# Altium integrated library Linear Technology Power Management Supercapacitor Chargers.IntLib: 96 symbols (part 5 of 8)
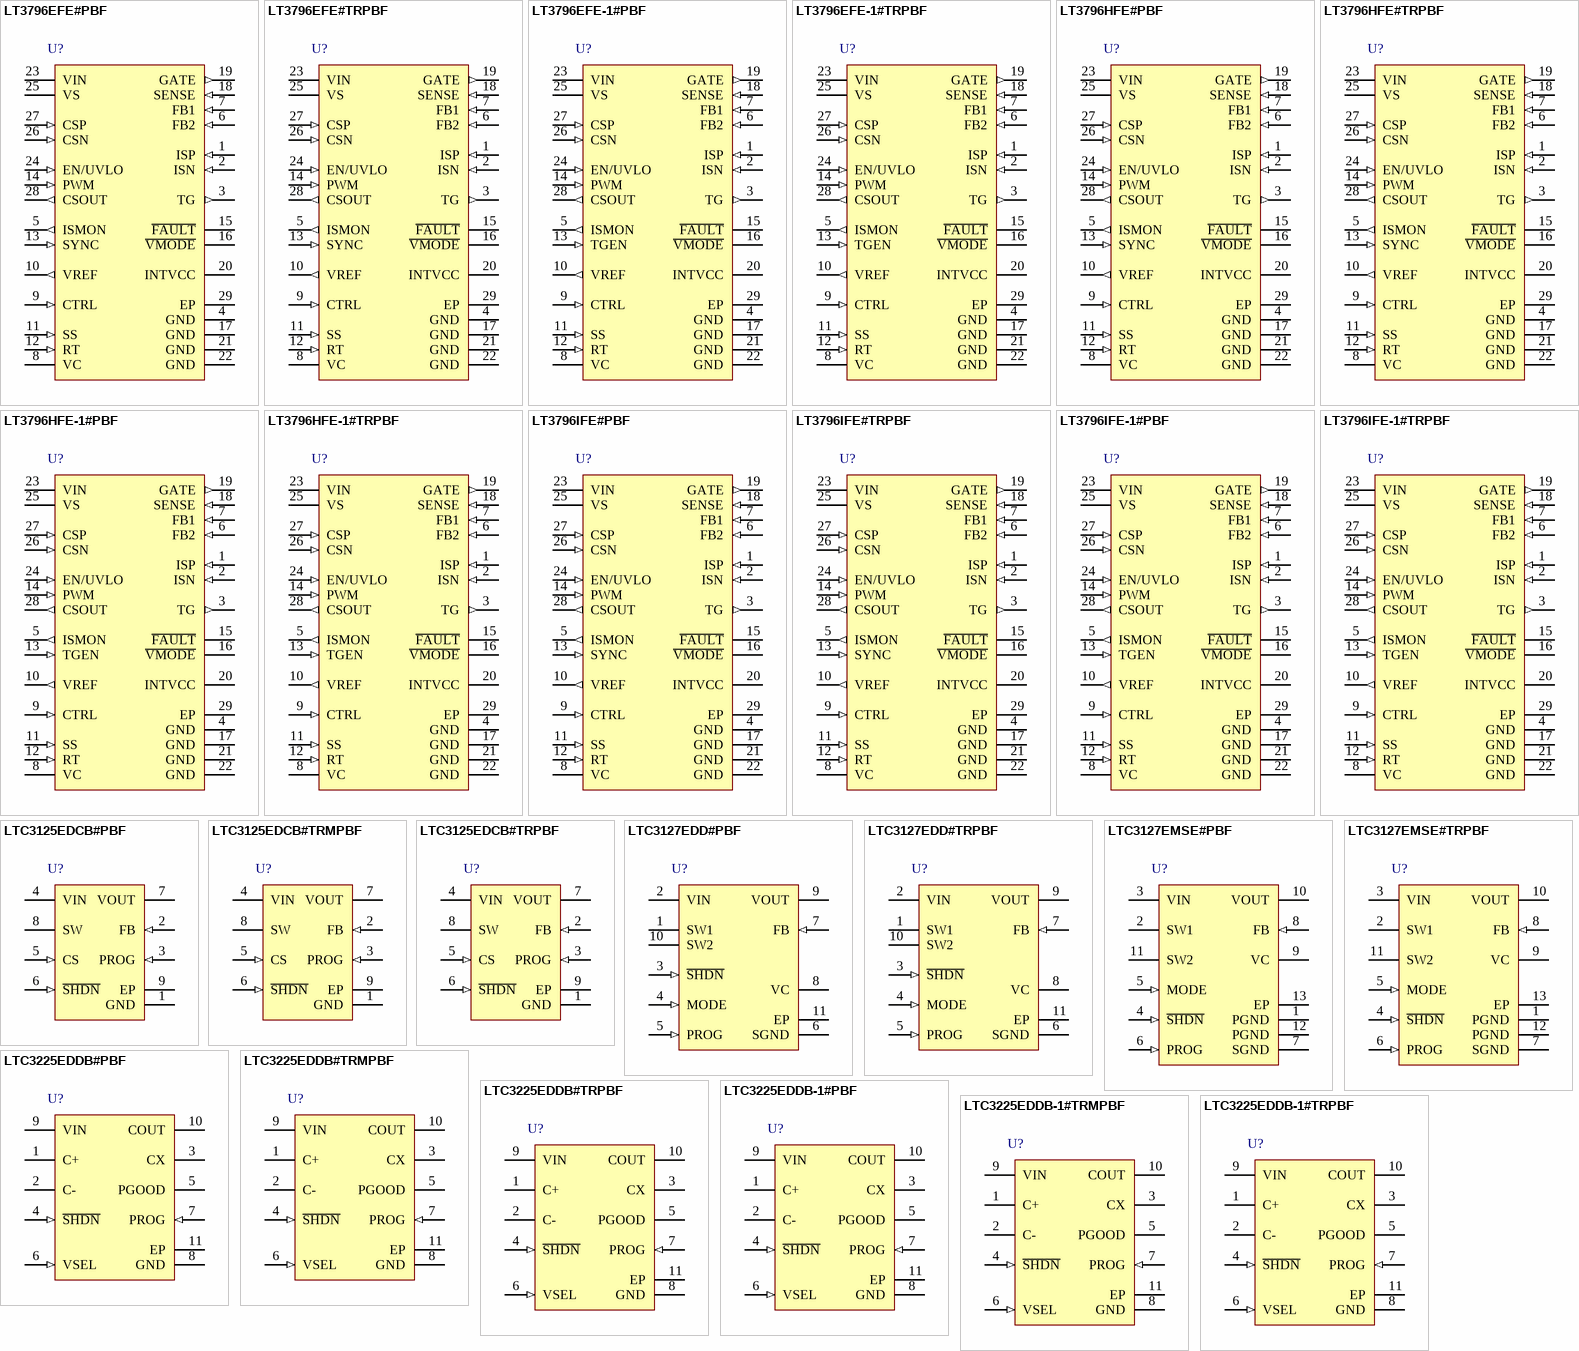
[diagram p7: symbols LT3796EFE#PBF to LTC3225EDDB-1#TRPBF]

## LTC3127EMSE#PBF
designator U?
1 A Buck-Boost DC/DC Converer with Porgrammable Input Current Limit, 1.8 to 5.5 V Vin, 5.25 V Vout MAX, 12-pin SOP (MSE-12-EDP), -40 to 85 degC, Pb-Free; Manufacturer: Linear Technology; PartNumber: LTC3127EMSE#PBF; Output Current(A): 1; PackageVersion: Rev. G, 05/2013; PackageReference: MSE-12-EDP; PackageDescription: 12-Pin Plastic MSOP, Exposed Die Pad, Body 4.039 x 3 mm, Pitch 0.65 mm; Supplier 1: Digi-Key; Supplier Part Number 1: LTC3127EMSE#PBF-ND; Supplier 2: Newark; Supplier Part Number 2: 67R4282; RoHS: TRUE; Topology: Buck-Boost; Mounting Technology: Surface Mount; ComponentLink1Description: Manufacturer URL; ComponentLink1URL: http://www.linear.com/; ComponentLink2Description: Datasheet; ComponentLink2URL: http://cds.linear.com/docs/en/datasheet/3127f.pdf; ComponentLink3Description: Package Specification; ComponentLink3URL: http://cds.linear.com/docs/en/packaging/05081666_G_MSE12.pdf
footprint LT-MSE-12-EDP_N (SOP, 12-Leads, Body 4.1x3.1mm, Pitch 0.65mm, Thermal Pad 2.95x1.76mm, IPC Medium Density)
footprint LT-MSE-12-EDP_L (SOP, 12-Leads, Body 4.1x3.1mm, Pitch 0.65mm, Thermal Pad 2.95x1.76mm, IPC High Density)
footprint LT-MSE-12-EDP_M (SOP, 12-Leads, Body 4.1x3.1mm, Pitch 0.65mm, Thermal Pad 2.95x1.76mm, IPC Low Density)
pins: 1 PGND (power) "Power Ground. The exposed pad must be soldered to the PCB ground plane.", 2 SW1 "Switch Pin Where Internal Switches A and B Are Connected. Connect inductor from SW1 to SW2. Minimize trace length to reduce EMI.", 3 VIN (power) "Input Supply Pin. Internal VCC for the IC. A 10uF or greater ceramic capacitor should be placed as close to VIN and PGND as possible.", 4 ~{SHDN} (in) "Logic-Controlled Shutdown Input.", 5 MODE (in) "Pulse Width Modulation/Burst Mode Selection Input.", 6 PROG (in) "Sets the Average Input Current Limit Threshold. Connect a resistor from PROG to ground. See below for component value selection.", 7 SGND (power) "Signal Ground for the IC. Terminate the PROG resistor, compensation components and the output voltage divider to SGND.", 8 FB (in) "Feedback Pin. Connect resistor divider tap here. The output voltage can be adjusted from 1.8V to 5.25V. The feedback reference voltage is 1.195V.", 9 VC "Error Amplifier Output. Place compensation components from this pin to SGND.", 10 VOUT (power) "Output of the Synchronous Rectifier. Connect the output filter capacitor from this pin to GND. A minimum value of 22uF is recommended. Output capacitors must be low ESR.", 11 SW2 "Switch Pin Where Internal Switches C and D Are Connected. Minimize trace length to reduce EMI.", 12 PGND (power) "Power Ground. The exposed pad must be soldered to the PCB ground plane.", 13 EP (power) "Power Ground. The exposed pad must be soldered to the PCB ground plane."

## LTC3127EMSE#TRPBF
designator U?
1 A Buck-Boost DC/DC Converer with Porgrammable Input Current Limit, 1.8 to 5.5 V Vin, 5.25 V Vout MAX, 12-pin SOP (MSE-12-EDP), -40 to 85 degC, Pb-Free, Tape and Reel; Manufacturer: Linear Technology; PartNumber: LTC3127EMSE#TRPBF; Output Current(A): 1; PackageVersion: Rev. G, 05/2013; PackageReference: MSE-12-EDP; PackageDescription: 12-Pin Plastic MSOP, Exposed Die Pad, Body 4.039 x 3 mm, Pitch 0.65 mm; Supplier 1: Digi-Key; Supplier Part Number 1: LTC3127EMSE#TRPBF-ND; Packing: Tape and Reel; RoHS: TRUE; Topology: Buck-Boost; Mounting Technology: Surface Mount; ComponentLink1Description: Manufacturer URL; ComponentLink1URL: http://www.linear.com/; ComponentLink2Description: Datasheet; ComponentLink2URL: http://cds.linear.com/docs/en/datasheet/3127f.pdf; ComponentLink3Description: Package Specification; ComponentLink3URL: http://cds.linear.com/docs/en/packaging/05081666_G_MSE12.pdf
footprint LT-MSE-12-EDP_N (SOP, 12-Leads, Body 4.1x3.1mm, Pitch 0.65mm, Thermal Pad 2.95x1.76mm, IPC Medium Density)
footprint LT-MSE-12-EDP_L (SOP, 12-Leads, Body 4.1x3.1mm, Pitch 0.65mm, Thermal Pad 2.95x1.76mm, IPC High Density)
footprint LT-MSE-12-EDP_M (SOP, 12-Leads, Body 4.1x3.1mm, Pitch 0.65mm, Thermal Pad 2.95x1.76mm, IPC Low Density)
pins: 1 PGND (power) "Power Ground. The exposed pad must be soldered to the PCB ground plane.", 2 SW1 "Switch Pin Where Internal Switches A and B Are Connected. Connect inductor from SW1 to SW2. Minimize trace length to reduce EMI.", 3 VIN (power) "Input Supply Pin. Internal VCC for the IC. A 10uF or greater ceramic capacitor should be placed as close to VIN and PGND as possible.", 4 ~{SHDN} (in) "Logic-Controlled Shutdown Input.", 5 MODE (in) "Pulse Width Modulation/Burst Mode Selection Input.", 6 PROG (in) "Sets the Average Input Current Limit Threshold. Connect a resistor from PROG to ground. See below for component value selection.", 7 SGND (power) "Signal Ground for the IC. Terminate the PROG resistor, compensation components and the output voltage divider to SGND.", 8 FB (in) "Feedback Pin. Connect resistor divider tap here. The output voltage can be adjusted from 1.8V to 5.25V. The feedback reference voltage is 1.195V.", 9 VC "Error Amplifier Output. Place compensation components from this pin to SGND.", 10 VOUT (power) "Output of the Synchronous Rectifier. Connect the output filter capacitor from this pin to GND. A minimum value of 22uF is recommended. Output capacitors must be low ESR.", 11 SW2 "Switch Pin Where Internal Switches C and D Are Connected. Minimize trace length to reduce EMI.", 12 PGND (power) "Power Ground. The exposed pad must be soldered to the PCB ground plane.", 13 EP (power) "Power Ground. The exposed pad must be soldered to the PCB ground plane."

## LTC3225EDDB#PBF
designator U?
150 mA Supercapacitor Charger, Selectable 2.4 V or 2.65 V Per Cell, 3 to 5.5 V Vin, 10-pin SON (DDB10), -40 to 85 degC, Pb-Free; Manufacturer: Linear Technology; PartNumber: LTC3225EDDB#PBF; Output Current(A): 0.15; Topology: Charge Pump; DatasheetVersion: Rev. B; PackageVersion: Rev. Ø, 06/2010; PackageReference: DDB10; PackageDescription: 10-Pin Plastic DFN, Body 3 x 2 mm, Pitch 0.5 mm; Supplier 1: Farnell; Supplier Part Number 1: 2308141; Supplier 2: Newark; Supplier Part Number 2: 78T3167; RoHS: TRUE; Mounting Technology: Surface Mount; Code_JEDEC: MO-229; ComponentLink1Description: Manufacturer URL; ComponentLink1URL: http://www.linear.com/; ComponentLink2Description: Datasheet; ComponentLink2URL: http://cds.linear.com/docs/en/datasheet/3225fb.pdf; ComponentLink3Description: Package Specification; ComponentLink3URL: http://cds.linear.com/docs/en/packaging/DFN_10_05-08-1722.pdf
footprint LT-DDB-10_V (SON, 10-Leads, Body 3x2mm, Pitch 0.5mm, Thermal Pad 2.39x0.64mm)
pins: 1 C+ "Flying Capacitor Positive Terminal. A 1uF X5R or X7R ceramic capacitor should be connected from C+ to C-.", 2 C- "Flying Capacitor Negative Terminal.", 3 CX "Midpoint of Two Series Supercapacitors. This pin voltage is monitored and forced to track COUT (CX = COUT/2) during charging to achieve voltage balancing of the top and bottom supercapacitors.", 4 ~{SHDN} (in) "Active Low Shutdown Input. A low on S\H\D\N\ puts the LTC3225/LTC3225-1 in low current shutdown mode. Do not float the S\H\D\N\ pin.", 5 PGOOD (hiz) "Open-Drain Output Status Indicator. Upon start-up, this open-drain pin remains low until the output voltage, VOUT, is within 6% (typical) of its fi nal value. Once VOUT is valid, PGOOD becomes Hi-Z. If VOUT falls 7.2% (See Datasheet)", 6 VSEL (in) "Output Voltage Selection Input. A logic low at VSEL sets the regulated COUT to 4.8V (LTC3225) or 4V (LTC3225-1); a logic high sets the regulated COUT to 5.3V (LTC3225) or 4.5V (LTC3225-1). Do not float the VSEL pin.", 7 PROG (in) "Charge Current Programming Pin. A resistor connected between this pin and GND sets the charge current. (See Applications Information section).", 8 GND (power) "Charge Pump Ground. These pins must be soldered directly to PCB ground. The exposed pad must be soldered to a low impedance PCB ground for rated thermal performance.", 9 VIN (power) "Power Supply for the LTC3225/LTC3225-1. VIN should be bypassed to GND with a low ESR ceramic capacitor of more than 2.2uF.", 10 COUT (power) "Charge Pump Output Pin. Connect COUT to the top plate of the top supercapacitor. COUT provides charge current to the supercapacitors and regulates the final voltage to 4.8V/5.3V (LTC3225) or 4V/4.5V (LTC3225-1).", 11 EP (power) "Charge Pump Ground. These pins must be soldered directly to PCB ground. The exposed pad must be soldered to a low impedance PCB ground for rated thermal performance."

## LTC3225EDDB#TRMPBF
designator U?
150 mA Supercapacitor Charger, Selectable 2.4 V or 2.65 V Per Cell, 3 to 5.5 V Vin, 10-pin SON (DDB10), -40 to 85 degC, Pb-Free, Mini Tape and Reel; Manufacturer: Linear Technology; PartNumber: LTC3225EDDB#TRMPBF; Output Current(A): 0.15; Topology: Charge Pump; DatasheetVersion: Rev. B; PackageVersion: Rev. Ø, 06/2010; PackageReference: DDB10; PackageDescription: 10-Pin Plastic DFN, Body 3 x 2 mm, Pitch 0.5 mm; Supplier 1: Digi-Key; Supplier Part Number 1: LTC3225EDDB#TRMPBFTR-ND; Supplier 2: Digi-Key; Supplier Part Number 2: LTC3225EDDB#TRMPBFCT-ND; Supplier 3: Digi-Key; Supplier Part Number 3: LTC3225EDDB#TRMPBFDKR-ND; Supplier 4: Farnell; Supplier Part Number 4: 1715231RL; Supplier 5: Farnell; Supplier Part Number 5: 1715231; Supplier 6: Newark; Supplier Part Number 6: 15N3516; Packing: Mini Tape and Reel; RoHS: TRUE; Mounting Technology: Surface Mount; Code_JEDEC: MO-229; ComponentLink1Description: Manufacturer URL; ComponentLink1URL: http://www.linear.com/; ComponentLink2Description: Datasheet; ComponentLink2URL: http://cds.linear.com/docs/en/datasheet/3225fb.pdf; ComponentLink3Description: Package Specification; ComponentLink3URL: http://cds.linear.com/docs/en/packaging/DFN_10_05-08-1722.pdf
footprint LT-DDB-10_V (SON, 10-Leads, Body 3x2mm, Pitch 0.5mm, Thermal Pad 2.39x0.64mm)
pins: 1 C+ "Flying Capacitor Positive Terminal. A 1uF X5R or X7R ceramic capacitor should be connected from C+ to C-.", 2 C- "Flying Capacitor Negative Terminal.", 3 CX "Midpoint of Two Series Supercapacitors. This pin voltage is monitored and forced to track COUT (CX = COUT/2) during charging to achieve voltage balancing of the top and bottom supercapacitors.", 4 ~{SHDN} (in) "Active Low Shutdown Input. A low on S\H\D\N\ puts the LTC3225/LTC3225-1 in low current shutdown mode. Do not float the S\H\D\N\ pin.", 5 PGOOD (hiz) "Open-Drain Output Status Indicator. Upon start-up, this open-drain pin remains low until the output voltage, VOUT, is within 6% (typical) of its fi nal value. Once VOUT is valid, PGOOD becomes Hi-Z. If VOUT falls 7.2% (See Datasheet)", 6 VSEL (in) "Output Voltage Selection Input. A logic low at VSEL sets the regulated COUT to 4.8V (LTC3225) or 4V (LTC3225-1); a logic high sets the regulated COUT to 5.3V (LTC3225) or 4.5V (LTC3225-1). Do not float the VSEL pin.", 7 PROG (in) "Charge Current Programming Pin. A resistor connected between this pin and GND sets the charge current. (See Applications Information section).", 8 GND (power) "Charge Pump Ground. These pins must be soldered directly to PCB ground. The exposed pad must be soldered to a low impedance PCB ground for rated thermal performance.", 9 VIN (power) "Power Supply for the LTC3225/LTC3225-1. VIN should be bypassed to GND with a low ESR ceramic capacitor of more than 2.2uF.", 10 COUT (power) "Charge Pump Output Pin. Connect COUT to the top plate of the top supercapacitor. COUT provides charge current to the supercapacitors and regulates the final voltage to 4.8V/5.3V (LTC3225) or 4V/4.5V (LTC3225-1).", 11 EP (power) "Charge Pump Ground. These pins must be soldered directly to PCB ground. The exposed pad must be soldered to a low impedance PCB ground for rated thermal performance."

## LTC3225EDDB#TRPBF
designator U?
150 mA Supercapacitor Charger, Selectable 2.4 V or 2.65 V Per Cell, 3 to 5.5 V Vin, 10-pin SON (DDB10), -40 to 85 degC, Pb-Free, Tape and Reel; Manufacturer: Linear Technology; PartNumber: LTC3225EDDB#TRPBF; Output Current(A): 0.15; Topology: Charge Pump; DatasheetVersion: Rev. B; PackageVersion: Rev. Ø, 06/2010; PackageReference: DDB10; PackageDescription: 10-Pin Plastic DFN, Body 3 x 2 mm, Pitch 0.5 mm; Supplier 1: Digi-Key; Supplier Part Number 1: LTC3225EDDB#TRPBF-ND; Packing: Tape and Reel; RoHS: TRUE; Mounting Technology: Surface Mount; Code_JEDEC: MO-229; ComponentLink1Description: Manufacturer URL; ComponentLink1URL: http://www.linear.com/; ComponentLink2Description: Datasheet; ComponentLink2URL: http://cds.linear.com/docs/en/datasheet/3225fb.pdf; ComponentLink3Description: Package Specification; ComponentLink3URL: http://cds.linear.com/docs/en/packaging/DFN_10_05-08-1722.pdf
footprint LT-DDB-10_V (SON, 10-Leads, Body 3x2mm, Pitch 0.5mm, Thermal Pad 2.39x0.64mm)
pins: 1 C+ "Flying Capacitor Positive Terminal. A 1uF X5R or X7R ceramic capacitor should be connected from C+ to C-.", 2 C- "Flying Capacitor Negative Terminal.", 3 CX "Midpoint of Two Series Supercapacitors. This pin voltage is monitored and forced to track COUT (CX = COUT/2) during charging to achieve voltage balancing of the top and bottom supercapacitors.", 4 ~{SHDN} (in) "Active Low Shutdown Input. A low on S\H\D\N\ puts the LTC3225/LTC3225-1 in low current shutdown mode. Do not float the S\H\D\N\ pin.", 5 PGOOD (hiz) "Open-Drain Output Status Indicator. Upon start-up, this open-drain pin remains low until the output voltage, VOUT, is within 6% (typical) of its fi nal value. Once VOUT is valid, PGOOD becomes Hi-Z. If VOUT falls 7.2% (See Datasheet)", 6 VSEL (in) "Output Voltage Selection Input. A logic low at VSEL sets the regulated COUT to 4.8V (LTC3225) or 4V (LTC3225-1); a logic high sets the regulated COUT to 5.3V (LTC3225) or 4.5V (LTC3225-1). Do not float the VSEL pin.", 7 PROG (in) "Charge Current Programming Pin. A resistor connected between this pin and GND sets the charge current. (See Applications Information section).", 8 GND (power) "Charge Pump Ground. These pins must be soldered directly to PCB ground. The exposed pad must be soldered to a low impedance PCB ground for rated thermal performance.", 9 VIN (power) "Power Supply for the LTC3225/LTC3225-1. VIN should be bypassed to GND with a low ESR ceramic capacitor of more than 2.2uF.", 10 COUT (power) "Charge Pump Output Pin. Connect COUT to the top plate of the top supercapacitor. COUT provides charge current to the supercapacitors and regulates the final voltage to 4.8V/5.3V (LTC3225) or 4V/4.5V (LTC3225-1).", 11 EP (power) "Charge Pump Ground. These pins must be soldered directly to PCB ground. The exposed pad must be soldered to a low impedance PCB ground for rated thermal performance."

## LTC3225EDDB-1#PBF
designator U?
150 mA Supercapacitor Charger, Selectable 2 V or 2.25 V Per Cell, 3 to 5.5 V Vin, 10-pin SON (DDB10), -40 to 85 degC, Pb-Free; Manufacturer: Linear Technology; PartNumber: LTC3225EDDB-1#PBF; Output Current(A): 0.15; Topology: Charge Pump; DatasheetVersion: Rev. B; PackageVersion: Rev. Ø, 06/2010; PackageReference: DDB10; PackageDescription: 10-Pin Plastic DFN, Body 3 x 2 mm, Pitch 0.5 mm; RoHS: TRUE; Mounting Technology: Surface Mount; Code_JEDEC: MO-229; ComponentLink1Description: Manufacturer URL; ComponentLink1URL: http://www.linear.com/; ComponentLink2Description: Datasheet; ComponentLink2URL: http://cds.linear.com/docs/en/datasheet/3225fb.pdf; ComponentLink3Description: Package Specification; ComponentLink3URL: http://cds.linear.com/docs/en/packaging/DFN_10_05-08-1722.pdf
footprint LT-DDB-10_V (SON, 10-Leads, Body 3x2mm, Pitch 0.5mm, Thermal Pad 2.39x0.64mm)
pins: 1 C+ "Flying Capacitor Positive Terminal. A 1uF X5R or X7R ceramic capacitor should be connected from C+ to C-.", 2 C- "Flying Capacitor Negative Terminal.", 3 CX "Midpoint of Two Series Supercapacitors. This pin voltage is monitored and forced to track COUT (CX = COUT/2) during charging to achieve voltage balancing of the top and bottom supercapacitors.", 4 ~{SHDN} (in) "Active Low Shutdown Input. A low on S\H\D\N\ puts the LTC3225/LTC3225-1 in low current shutdown mode. Do not float the S\H\D\N\ pin.", 5 PGOOD (hiz) "Open-Drain Output Status Indicator. Upon start-up, this open-drain pin remains low until the output voltage, VOUT, is within 6% (typical) of its fi nal value. Once VOUT is valid, PGOOD becomes Hi-Z. If VOUT falls 7.2% (See Datasheet)", 6 VSEL (in) "Output Voltage Selection Input. A logic low at VSEL sets the regulated COUT to 4.8V (LTC3225) or 4V (LTC3225-1); a logic high sets the regulated COUT to 5.3V (LTC3225) or 4.5V (LTC3225-1). Do not float the VSEL pin.", 7 PROG (in) "Charge Current Programming Pin. A resistor connected between this pin and GND sets the charge current. (See Applications Information section).", 8 GND (power) "Charge Pump Ground. These pins must be soldered directly to PCB ground. The exposed pad must be soldered to a low impedance PCB ground for rated thermal performance.", 9 VIN (power) "Power Supply for the LTC3225/LTC3225-1. VIN should be bypassed to GND with a low ESR ceramic capacitor of more than 2.2uF.", 10 COUT (power) "Charge Pump Output Pin. Connect COUT to the top plate of the top supercapacitor. COUT provides charge current to the supercapacitors and regulates the final voltage to 4.8V/5.3V (LTC3225) or 4V/4.5V (LTC3225-1).", 11 EP (power) "Charge Pump Ground. These pins must be soldered directly to PCB ground. The exposed pad must be soldered to a low impedance PCB ground for rated thermal performance."

## LTC3225EDDB-1#TRMPBF
designator U?
150 mA Supercapacitor Charger, Selectable 2 V or 2.25 V Per Cell, 3 to 5.5 V Vin, 10-pin SON (DDB10), -40 to 85 degC, Pb-Free, Mini Tape and Reel; Manufacturer: Linear Technology; PartNumber: LTC3225EDDB-1#TRMPBF; Output Current(A): 0.15; Topology: Charge Pump; DatasheetVersion: Rev. B; PackageVersion: Rev. Ø, 06/2010; PackageReference: DDB10; PackageDescription: 10-Pin Plastic DFN, Body 3 x 2 mm, Pitch 0.5 mm; Supplier 1: Digi-Key; Supplier Part Number 1: LTC3225EDDB-1#TRMPBFTR-ND; Supplier 2: Digi-Key; Supplier Part Number 2: LTC3225EDDB-1#TRMPBFCT-ND; Supplier 3: Digi-Key; Supplier Part Number 3: LTC3225EDDB-1#TRMPBFDKR-ND; Supplier 4: Newark; Supplier Part Number 4: 24R6604; Packing: Mini Tape and Reel; RoHS: TRUE; Mounting Technology: Surface Mount; Code_JEDEC: MO-229; ComponentLink1Description: Manufacturer URL; ComponentLink1URL: http://www.linear.com/; ComponentLink2Description: Datasheet; ComponentLink2URL: http://cds.linear.com/docs/en/datasheet/3225fb.pdf; ComponentLink3Description: Package Specification; ComponentLink3URL: http://cds.linear.com/docs/en/packaging/DFN_10_05-08-1722.pdf
footprint LT-DDB-10_V (SON, 10-Leads, Body 3x2mm, Pitch 0.5mm, Thermal Pad 2.39x0.64mm)
pins: 1 C+ "Flying Capacitor Positive Terminal. A 1uF X5R or X7R ceramic capacitor should be connected from C+ to C-.", 2 C- "Flying Capacitor Negative Terminal.", 3 CX "Midpoint of Two Series Supercapacitors. This pin voltage is monitored and forced to track COUT (CX = COUT/2) during charging to achieve voltage balancing of the top and bottom supercapacitors.", 4 ~{SHDN} (in) "Active Low Shutdown Input. A low on S\H\D\N\ puts the LTC3225/LTC3225-1 in low current shutdown mode. Do not float the S\H\D\N\ pin.", 5 PGOOD (hiz) "Open-Drain Output Status Indicator. Upon start-up, this open-drain pin remains low until the output voltage, VOUT, is within 6% (typical) of its fi nal value. Once VOUT is valid, PGOOD becomes Hi-Z. If VOUT falls 7.2% (See Datasheet)", 6 VSEL (in) "Output Voltage Selection Input. A logic low at VSEL sets the regulated COUT to 4.8V (LTC3225) or 4V (LTC3225-1); a logic high sets the regulated COUT to 5.3V (LTC3225) or 4.5V (LTC3225-1). Do not float the VSEL pin.", 7 PROG (in) "Charge Current Programming Pin. A resistor connected between this pin and GND sets the charge current. (See Applications Information section).", 8 GND (power) "Charge Pump Ground. These pins must be soldered directly to PCB ground. The exposed pad must be soldered to a low impedance PCB ground for rated thermal performance.", 9 VIN (power) "Power Supply for the LTC3225/LTC3225-1. VIN should be bypassed to GND with a low ESR ceramic capacitor of more than 2.2uF.", 10 COUT (power) "Charge Pump Output Pin. Connect COUT to the top plate of the top supercapacitor. COUT provides charge current to the supercapacitors and regulates the final voltage to 4.8V/5.3V (LTC3225) or 4V/4.5V (LTC3225-1).", 11 EP (power) "Charge Pump Ground. These pins must be soldered directly to PCB ground. The exposed pad must be soldered to a low impedance PCB ground for rated thermal performance."

## LTC3225EDDB-1#TRPBF
designator U?
150 mA Supercapacitor Charger, Selectable 2 V or 2.25 V Per Cell, 3 to 5.5 V Vin, 10-pin SON (DDB10), -40 to 85 degC, Pb-Free, Tape and Reel; Manufacturer: Linear Technology; PartNumber: LTC3225EDDB-1#TRPBF; Output Current(A): 0.15; Topology: Charge Pump; DatasheetVersion: Rev. B; PackageVersion: Rev. Ø, 06/2010; PackageReference: DDB10; PackageDescription: 10-Pin Plastic DFN, Body 3 x 2 mm, Pitch 0.5 mm; Supplier 1: Digi-Key; Supplier Part Number 1: LTC3225EDDB-1#TRPBF-ND; Packing: Tape and Reel; RoHS: TRUE; Mounting Technology: Surface Mount; Code_JEDEC: MO-229; ComponentLink1Description: Manufacturer URL; ComponentLink1URL: http://www.linear.com/; ComponentLink2Description: Datasheet; ComponentLink2URL: http://cds.linear.com/docs/en/datasheet/3225fb.pdf; ComponentLink3Description: Package Specification; ComponentLink3URL: http://cds.linear.com/docs/en/packaging/DFN_10_05-08-1722.pdf
footprint LT-DDB-10_V (SON, 10-Leads, Body 3x2mm, Pitch 0.5mm, Thermal Pad 2.39x0.64mm)
pins: 1 C+ "Flying Capacitor Positive Terminal. A 1uF X5R or X7R ceramic capacitor should be connected from C+ to C-.", 2 C- "Flying Capacitor Negative Terminal.", 3 CX "Midpoint of Two Series Supercapacitors. This pin voltage is monitored and forced to track COUT (CX = COUT/2) during charging to achieve voltage balancing of the top and bottom supercapacitors.", 4 ~{SHDN} (in) "Active Low Shutdown Input. A low on S\H\D\N\ puts the LTC3225/LTC3225-1 in low current shutdown mode. Do not float the S\H\D\N\ pin.", 5 PGOOD (hiz) "Open-Drain Output Status Indicator. Upon start-up, this open-drain pin remains low until the output voltage, VOUT, is within 6% (typical) of its fi nal value. Once VOUT is valid, PGOOD becomes Hi-Z. If VOUT falls 7.2% (See Datasheet)", 6 VSEL (in) "Output Voltage Selection Input. A logic low at VSEL sets the regulated COUT to 4.8V (LTC3225) or 4V (LTC3225-1); a logic high sets the regulated COUT to 5.3V (LTC3225) or 4.5V (LTC3225-1). Do not float the VSEL pin.", 7 PROG (in) "Charge Current Programming Pin. A resistor connected between this pin and GND sets the charge current. (See Applications Information section).", 8 GND (power) "Charge Pump Ground. These pins must be soldered directly to PCB ground. The exposed pad must be soldered to a low impedance PCB ground for rated thermal performance.", 9 VIN (power) "Power Supply for the LTC3225/LTC3225-1. VIN should be bypassed to GND with a low ESR ceramic capacitor of more than 2.2uF.", 10 COUT (power) "Charge Pump Output Pin. Connect COUT to the top plate of the top supercapacitor. COUT provides charge current to the supercapacitors and regulates the final voltage to 4.8V/5.3V (LTC3225) or 4V/4.5V (LTC3225-1).", 11 EP (power) "Charge Pump Ground. These pins must be soldered directly to PCB ground. The exposed pad must be soldered to a low impedance PCB ground for rated thermal performance."

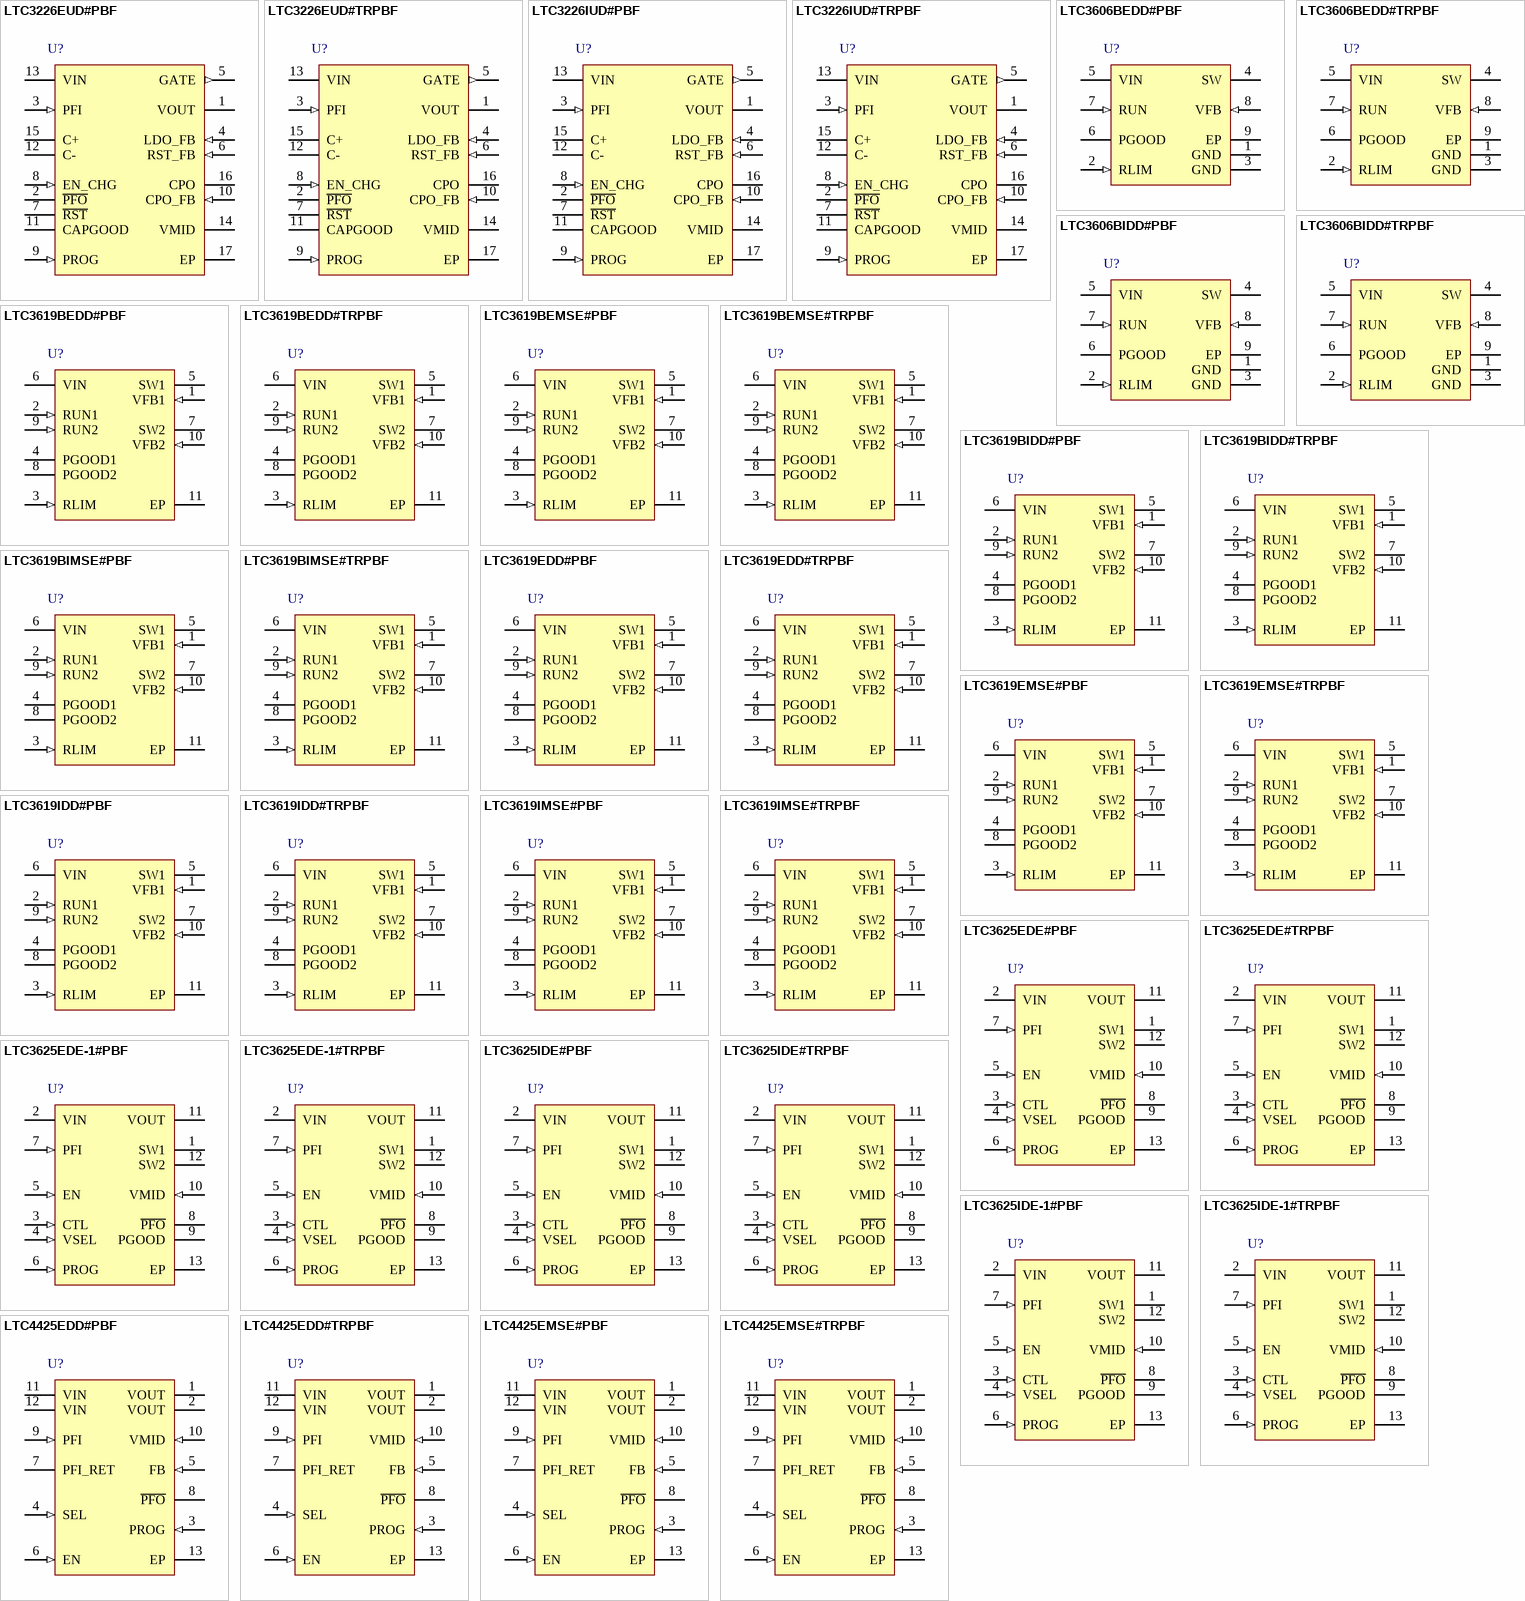
[diagram p2: symbols LTC3226EUD#PBF to LTC4425EMSE#TRPBF]

## LTC3226EUD#PBF
designator U?
2-Cell Supercapacitor Charger with Backup PowerPath Controller, 2.5 to 5.5 V Vin, 5.3 V Vout MAX, 16-pin QFN (UD-16), -40 to 125 degC, Pb-Free; Manufacturer: Linear Technology; PartNumber: LTC3226EUD#PBF; Output Current(A): 0.315; Topology: Charge Pump; DatasheetVersion: Rev. A; PackageVersion: Jun-10; PackageReference: UD-16; PackageDescription: 16-Pin Plastic QFN, Body 3 x 3 mm, Pitch 0.5 mm; Supplier 1: Digi-Key; Supplier Part Number 1: LTC3226EUD#PBF-ND; Supplier 2: Farnell; Supplier Part Number 2: 2033980; Supplier 3: Newark; Supplier Part Number 3: 59T5591; RoHS: TRUE; Mounting Technology: Surface Mount; Code_JEDEC: MO-220; ComponentLink1Description: Manufacturer URL; ComponentLink1URL: http://www.linear.com/; ComponentLink2Description: Datasheet; ComponentLink2URL: http://cds.linear.com/docs/en/datasheet/3226fa.pdf; ComponentLink3Description: Package Specification; ComponentLink3URL: http://cds.linear.com/docs/en/packaging/QFN_16_05-08-1691.pdf
footprint LT-UD-16_N (QFN, 16-Leads, Body 3x3mm, Pitch 0.5mm, Thermal Pad 1.45x1.45mm, IPC Medium Density)
footprint LT-UD-16_L (QFN, 16-Leads, Body 3x3mm, Pitch 0.5mm, Thermal Pad 1.45x1.45mm, IPC High Density)
footprint LT-UD-16_M (QFN, 16-Leads, Body 3x3mm, Pitch 0.5mm, Thermal Pad 1.45x1.45mm, IPC Low Density)
pins: 1 VOUT (power) "Voltage Output. This pin is used to provide power to an external load from either the primary input supply (VIN) or the supercapacitor (CPO) if the primary input supply is not available. VOUT should be bypassed with a low (See Datasheet)", 2 ~{PFO} (hiz) "Open-Drain Power-Fail Status Output. This pin is pulled to ground by an internal N-channel MOSFET when the PFI input is below 1.2V. Once the PFI input recovers, this pin becomes high impedance.", 3 PFI (in) "Power-Fail Input. High impedance input to an accurate comparator with a 1.2V falling threshold and 20mV hysteresis. This pin controls the state of the P\F\O\ output pin and the operating mode of the LTC3226.", 4 LDO_FB (in) "Internal LDO Feedback Pin. The voltage on this pin is compared to the internal reference voltage (0.8V) by the error amplifier to keep the output in regulation. An external resistor divider is required between VOUT, LDO_FB (See Datasheet)", 5 GATE (out) "External FET Gate Pin. This pin is driven by an internal ideal diode controller to regulate VOUT to 15mV below VIN.", 6 RST_FB (in) "Reset Comparator Input. High impedance input to an accurate comparator with a 0.74V falling threshold and 20mV hysteresis. This pin controls the state of the R\S\T\ output pin. An external resistor divider is required (See Datasheet)", 7 ~{RST} (hiz) "Open-Drain Status Output of the RESET Comparator. This pin is pulled to ground by an internal N-channel MOSFET whenever the RST_FB pin voltage falls below 0.74V. Once the RST_FB pin voltage recovers, the pin becomes high (See Datasheet)", 8 EN_CHG (in) "Enable Pin for the Charge Pump Supercapacitor Charger with an Internal Pull-Up. Tie this pin to a voltage below 0.4V to disable the internal charge pump.", 9 PROG (in) "Charger Input Current Limit Programming Pin. A resistor connected between this pin and GND sets the input current limit for the charger. See the Applications Information section.", 10 CPO_FB (in) "Feedback Pin for the Charge Pump. The voltage on this pin is compared to the internal reference voltage (1.2V) to keep the charge pump output CPO in regulation. An external resistor divider is required between CPO, CPO_FB (See Datasheet)", 11 CAPGOOD (hiz) "Open-Drain Status Output of the CPO Voltage. This pin is pulled to ground by an internal N-channel MOSFET until CPO_FB pin reaches 1.11V. Once the CPO_FB pin exceeds 1.11V, this pin becomes high impedance indicating that the (See Datasheet)", 12 C- "Internal Charge Pump Flying Capacitor Negative Terminal.", 13 VIN (power) "Primary Input Supply. This pin supplies power to the VOUT pin through an external P-channel MOSFET and also to the supercapacitors attached to the CPO and VMID pins. VIN should be bypassed to GND with a low ESR ceramic (See Datasheet)", 14 VMID "Midpoint of Two Series Supercapacitors.", 15 C+ "Internal Charge Pump Flying Capacitor Positive Terminal. A 1uF to 10uF X5R or X7R ceramic capacitor should be connected from C+ to C-.", 16 CPO (power) "Backup Supply Pin. Connect CPO to the top plate of the top supercapacitor. This pin receives power from VIN through an internal charge pump doubler and supplies power to VOUT through an internal LDO when the primary input (See Datasheet)", 17 EP (power) "Ground. The exposed pad should be connected to a continuous ground plane on the second layer of the printed circuit board by several vias directly under the part to achieve optimal thermal performance."

## LTC3226EUD#TRPBF
designator U?
2-Cell Supercapacitor Charger with Backup PowerPath Controller, 2.5 to 5.5 V Vin, 5.3 V Vout MAX, 16-pin QFN (UD-16), -40 to 125 degC, Pb-Free, Tape and Reel; Manufacturer: Linear Technology; PartNumber: LTC3226EUD#TRPBF; Output Current(A): 0.315; Topology: Charge Pump; DatasheetVersion: Rev. A; PackageVersion: Jun-10; PackageReference: UD-16; PackageDescription: 16-Pin Plastic QFN, Body 3 x 3 mm, Pitch 0.5 mm; Supplier 1: Digi-Key; Supplier Part Number 1: LTC3226EUD#TRPBF-ND; Packing: Tape and Reel; RoHS: TRUE; Mounting Technology: Surface Mount; Code_JEDEC: MO-220; ComponentLink1Description: Manufacturer URL; ComponentLink1URL: http://www.linear.com/; ComponentLink2Description: Datasheet; ComponentLink2URL: http://cds.linear.com/docs/en/datasheet/3226fa.pdf; ComponentLink3Description: Package Specification; ComponentLink3URL: http://cds.linear.com/docs/en/packaging/QFN_16_05-08-1691.pdf
footprint LT-UD-16_N (QFN, 16-Leads, Body 3x3mm, Pitch 0.5mm, Thermal Pad 1.45x1.45mm, IPC Medium Density)
footprint LT-UD-16_L (QFN, 16-Leads, Body 3x3mm, Pitch 0.5mm, Thermal Pad 1.45x1.45mm, IPC High Density)
footprint LT-UD-16_M (QFN, 16-Leads, Body 3x3mm, Pitch 0.5mm, Thermal Pad 1.45x1.45mm, IPC Low Density)
pins: 1 VOUT (power) "Voltage Output. This pin is used to provide power to an external load from either the primary input supply (VIN) or the supercapacitor (CPO) if the primary input supply is not available. VOUT should be bypassed with a low (See Datasheet)", 2 ~{PFO} (hiz) "Open-Drain Power-Fail Status Output. This pin is pulled to ground by an internal N-channel MOSFET when the PFI input is below 1.2V. Once the PFI input recovers, this pin becomes high impedance.", 3 PFI (in) "Power-Fail Input. High impedance input to an accurate comparator with a 1.2V falling threshold and 20mV hysteresis. This pin controls the state of the P\F\O\ output pin and the operating mode of the LTC3226.", 4 LDO_FB (in) "Internal LDO Feedback Pin. The voltage on this pin is compared to the internal reference voltage (0.8V) by the error amplifier to keep the output in regulation. An external resistor divider is required between VOUT, LDO_FB (See Datasheet)", 5 GATE (out) "External FET Gate Pin. This pin is driven by an internal ideal diode controller to regulate VOUT to 15mV below VIN.", 6 RST_FB (in) "Reset Comparator Input. High impedance input to an accurate comparator with a 0.74V falling threshold and 20mV hysteresis. This pin controls the state of the R\S\T\ output pin. An external resistor divider is required (See Datasheet)", 7 ~{RST} (hiz) "Open-Drain Status Output of the RESET Comparator. This pin is pulled to ground by an internal N-channel MOSFET whenever the RST_FB pin voltage falls below 0.74V. Once the RST_FB pin voltage recovers, the pin becomes high (See Datasheet)", 8 EN_CHG (in) "Enable Pin for the Charge Pump Supercapacitor Charger with an Internal Pull-Up. Tie this pin to a voltage below 0.4V to disable the internal charge pump.", 9 PROG (in) "Charger Input Current Limit Programming Pin. A resistor connected between this pin and GND sets the input current limit for the charger. See the Applications Information section.", 10 CPO_FB (in) "Feedback Pin for the Charge Pump. The voltage on this pin is compared to the internal reference voltage (1.2V) to keep the charge pump output CPO in regulation. An external resistor divider is required between CPO, CPO_FB (See Datasheet)", 11 CAPGOOD (hiz) "Open-Drain Status Output of the CPO Voltage. This pin is pulled to ground by an internal N-channel MOSFET until CPO_FB pin reaches 1.11V. Once the CPO_FB pin exceeds 1.11V, this pin becomes high impedance indicating that the (See Datasheet)", 12 C- "Internal Charge Pump Flying Capacitor Negative Terminal.", 13 VIN (power) "Primary Input Supply. This pin supplies power to the VOUT pin through an external P-channel MOSFET and also to the supercapacitors attached to the CPO and VMID pins. VIN should be bypassed to GND with a low ESR ceramic (See Datasheet)", 14 VMID "Midpoint of Two Series Supercapacitors.", 15 C+ "Internal Charge Pump Flying Capacitor Positive Terminal. A 1uF to 10uF X5R or X7R ceramic capacitor should be connected from C+ to C-.", 16 CPO (power) "Backup Supply Pin. Connect CPO to the top plate of the top supercapacitor. This pin receives power from VIN through an internal charge pump doubler and supplies power to VOUT through an internal LDO when the primary input (See Datasheet)", 17 EP (power) "Ground. The exposed pad should be connected to a continuous ground plane on the second layer of the printed circuit board by several vias directly under the part to achieve optimal thermal performance."

## LTC3226IUD#PBF
designator U?
2-Cell Supercapacitor Charger with Backup PowerPath Controller, 2.5 to 5.5 V Vin, 5.3 V Vout MAX, 16-pin QFN (UD-16), -40 to 125 degC, Pb-Free; Manufacturer: Linear Technology; PartNumber: LTC3226IUD#PBF; Output Current(A): 0.315; Topology: Charge Pump; DatasheetVersion: Rev. A; PackageVersion: Jun-10; PackageReference: UD-16; PackageDescription: 16-Pin Plastic QFN, Body 3 x 3 mm, Pitch 0.5 mm; Supplier 1: Digi-Key; Supplier Part Number 1: LTC3226IUD#PBF-ND; Supplier 2: Newark; Supplier Part Number 2: 59T5593; RoHS: TRUE; Mounting Technology: Surface Mount; Code_JEDEC: MO-220; ComponentLink1Description: Manufacturer URL; ComponentLink1URL: http://www.linear.com/; ComponentLink2Description: Datasheet; ComponentLink2URL: http://cds.linear.com/docs/en/datasheet/3226fa.pdf; ComponentLink3Description: Package Specification; ComponentLink3URL: http://cds.linear.com/docs/en/packaging/QFN_16_05-08-1691.pdf
footprint LT-UD-16_N (QFN, 16-Leads, Body 3x3mm, Pitch 0.5mm, Thermal Pad 1.45x1.45mm, IPC Medium Density)
footprint LT-UD-16_L (QFN, 16-Leads, Body 3x3mm, Pitch 0.5mm, Thermal Pad 1.45x1.45mm, IPC High Density)
footprint LT-UD-16_M (QFN, 16-Leads, Body 3x3mm, Pitch 0.5mm, Thermal Pad 1.45x1.45mm, IPC Low Density)
pins: 1 VOUT (power) "Voltage Output. This pin is used to provide power to an external load from either the primary input supply (VIN) or the supercapacitor (CPO) if the primary input supply is not available. VOUT should be bypassed with a low (See Datasheet)", 2 ~{PFO} (hiz) "Open-Drain Power-Fail Status Output. This pin is pulled to ground by an internal N-channel MOSFET when the PFI input is below 1.2V. Once the PFI input recovers, this pin becomes high impedance.", 3 PFI (in) "Power-Fail Input. High impedance input to an accurate comparator with a 1.2V falling threshold and 20mV hysteresis. This pin controls the state of the P\F\O\ output pin and the operating mode of the LTC3226.", 4 LDO_FB (in) "Internal LDO Feedback Pin. The voltage on this pin is compared to the internal reference voltage (0.8V) by the error amplifier to keep the output in regulation. An external resistor divider is required between VOUT, LDO_FB (See Datasheet)", 5 GATE (out) "External FET Gate Pin. This pin is driven by an internal ideal diode controller to regulate VOUT to 15mV below VIN.", 6 RST_FB (in) "Reset Comparator Input. High impedance input to an accurate comparator with a 0.74V falling threshold and 20mV hysteresis. This pin controls the state of the R\S\T\ output pin. An external resistor divider is required (See Datasheet)", 7 ~{RST} (hiz) "Open-Drain Status Output of the RESET Comparator. This pin is pulled to ground by an internal N-channel MOSFET whenever the RST_FB pin voltage falls below 0.74V. Once the RST_FB pin voltage recovers, the pin becomes high (See Datasheet)", 8 EN_CHG (in) "Enable Pin for the Charge Pump Supercapacitor Charger with an Internal Pull-Up. Tie this pin to a voltage below 0.4V to disable the internal charge pump.", 9 PROG (in) "Charger Input Current Limit Programming Pin. A resistor connected between this pin and GND sets the input current limit for the charger. See the Applications Information section.", 10 CPO_FB (in) "Feedback Pin for the Charge Pump. The voltage on this pin is compared to the internal reference voltage (1.2V) to keep the charge pump output CPO in regulation. An external resistor divider is required between CPO, CPO_FB (See Datasheet)", 11 CAPGOOD (hiz) "Open-Drain Status Output of the CPO Voltage. This pin is pulled to ground by an internal N-channel MOSFET until CPO_FB pin reaches 1.11V. Once the CPO_FB pin exceeds 1.11V, this pin becomes high impedance indicating that the (See Datasheet)", 12 C- "Internal Charge Pump Flying Capacitor Negative Terminal.", 13 VIN (power) "Primary Input Supply. This pin supplies power to the VOUT pin through an external P-channel MOSFET and also to the supercapacitors attached to the CPO and VMID pins. VIN should be bypassed to GND with a low ESR ceramic (See Datasheet)", 14 VMID "Midpoint of Two Series Supercapacitors.", 15 C+ "Internal Charge Pump Flying Capacitor Positive Terminal. A 1uF to 10uF X5R or X7R ceramic capacitor should be connected from C+ to C-.", 16 CPO (power) "Backup Supply Pin. Connect CPO to the top plate of the top supercapacitor. This pin receives power from VIN through an internal charge pump doubler and supplies power to VOUT through an internal LDO when the primary input (See Datasheet)", 17 EP (power) "Ground. The exposed pad should be connected to a continuous ground plane on the second layer of the printed circuit board by several vias directly under the part to achieve optimal thermal performance."

## LTC3226IUD#TRPBF
designator U?
2-Cell Supercapacitor Charger with Backup PowerPath Controller, 2.5 to 5.5 V Vin, 5.3 V Vout MAX, 16-pin QFN (UD-16), -40 to 125 degC, Pb-Free, Tape and Reel; Manufacturer: Linear Technology; PartNumber: LTC3226IUD#TRPBF; Output Current(A): 0.315; Topology: Charge Pump; DatasheetVersion: Rev. A; PackageVersion: Jun-10; PackageReference: UD-16; PackageDescription: 16-Pin Plastic QFN, Body 3 x 3 mm, Pitch 0.5 mm; Supplier 1: Digi-Key; Supplier Part Number 1: LTC3226IUD#TRPBF-ND; Packing: Tape and Reel; RoHS: TRUE; Mounting Technology: Surface Mount; Code_JEDEC: MO-220; ComponentLink1Description: Manufacturer URL; ComponentLink1URL: http://www.linear.com/; ComponentLink2Description: Datasheet; ComponentLink2URL: http://cds.linear.com/docs/en/datasheet/3226fa.pdf; ComponentLink3Description: Package Specification; ComponentLink3URL: http://cds.linear.com/docs/en/packaging/QFN_16_05-08-1691.pdf
footprint LT-UD-16_N (QFN, 16-Leads, Body 3x3mm, Pitch 0.5mm, Thermal Pad 1.45x1.45mm, IPC Medium Density)
footprint LT-UD-16_L (QFN, 16-Leads, Body 3x3mm, Pitch 0.5mm, Thermal Pad 1.45x1.45mm, IPC High Density)
footprint LT-UD-16_M (QFN, 16-Leads, Body 3x3mm, Pitch 0.5mm, Thermal Pad 1.45x1.45mm, IPC Low Density)
pins: 1 VOUT (power) "Voltage Output. This pin is used to provide power to an external load from either the primary input supply (VIN) or the supercapacitor (CPO) if the primary input supply is not available. VOUT should be bypassed with a low (See Datasheet)", 2 ~{PFO} (hiz) "Open-Drain Power-Fail Status Output. This pin is pulled to ground by an internal N-channel MOSFET when the PFI input is below 1.2V. Once the PFI input recovers, this pin becomes high impedance.", 3 PFI (in) "Power-Fail Input. High impedance input to an accurate comparator with a 1.2V falling threshold and 20mV hysteresis. This pin controls the state of the P\F\O\ output pin and the operating mode of the LTC3226.", 4 LDO_FB (in) "Internal LDO Feedback Pin. The voltage on this pin is compared to the internal reference voltage (0.8V) by the error amplifier to keep the output in regulation. An external resistor divider is required between VOUT, LDO_FB (See Datasheet)", 5 GATE (out) "External FET Gate Pin. This pin is driven by an internal ideal diode controller to regulate VOUT to 15mV below VIN.", 6 RST_FB (in) "Reset Comparator Input. High impedance input to an accurate comparator with a 0.74V falling threshold and 20mV hysteresis. This pin controls the state of the R\S\T\ output pin. An external resistor divider is required (See Datasheet)", 7 ~{RST} (hiz) "Open-Drain Status Output of the RESET Comparator. This pin is pulled to ground by an internal N-channel MOSFET whenever the RST_FB pin voltage falls below 0.74V. Once the RST_FB pin voltage recovers, the pin becomes high (See Datasheet)", 8 EN_CHG (in) "Enable Pin for the Charge Pump Supercapacitor Charger with an Internal Pull-Up. Tie this pin to a voltage below 0.4V to disable the internal charge pump.", 9 PROG (in) "Charger Input Current Limit Programming Pin. A resistor connected between this pin and GND sets the input current limit for the charger. See the Applications Information section.", 10 CPO_FB (in) "Feedback Pin for the Charge Pump. The voltage on this pin is compared to the internal reference voltage (1.2V) to keep the charge pump output CPO in regulation. An external resistor divider is required between CPO, CPO_FB (See Datasheet)", 11 CAPGOOD (hiz) "Open-Drain Status Output of the CPO Voltage. This pin is pulled to ground by an internal N-channel MOSFET until CPO_FB pin reaches 1.11V. Once the CPO_FB pin exceeds 1.11V, this pin becomes high impedance indicating that the (See Datasheet)", 12 C- "Internal Charge Pump Flying Capacitor Negative Terminal.", 13 VIN (power) "Primary Input Supply. This pin supplies power to the VOUT pin through an external P-channel MOSFET and also to the supercapacitors attached to the CPO and VMID pins. VIN should be bypassed to GND with a low ESR ceramic (See Datasheet)", 14 VMID "Midpoint of Two Series Supercapacitors.", 15 C+ "Internal Charge Pump Flying Capacitor Positive Terminal. A 1uF to 10uF X5R or X7R ceramic capacitor should be connected from C+ to C-.", 16 CPO (power) "Backup Supply Pin. Connect CPO to the top plate of the top supercapacitor. This pin receives power from VIN through an internal charge pump doubler and supplies power to VOUT through an internal LDO when the primary input (See Datasheet)", 17 EP (power) "Ground. The exposed pad should be connected to a continuous ground plane on the second layer of the printed circuit board by several vias directly under the part to achieve optimal thermal performance."

## LTC3606BEDD#PBF
designator U?
800 mA Synchronous Step-Down DC/DC with Average Input Current Limit, 2.5 to 5.5 V Vin, 5 V Vout MAX, 8-pin SON (DD-8), -40 to 85 degC, Pb-Free; Manufacturer: Linear Technology; PartNumber: LTC3606BEDD#PBF; Output Current(A): 0.8; Topology: Buck; DatasheetVersion: Rev. B; PackageVersion: Jun-10; PackageReference: DD-8; PackageDescription: 8-Pin Plastic DFN, Body 3 x 3 mm, Pitch 0.5 mm; Supplier 1: Digi-Key; Supplier Part Number 1: LTC3606BEDD#PBF-ND; Supplier 2: Farnell; Supplier Part Number 2: 1839255; Supplier 3: Newark; Supplier Part Number 3: 51R1508; RoHS: TRUE; Mounting Technology: Surface Mount; Code_JEDEC: MO-229; ComponentLink1Description: Manufacturer URL; ComponentLink1URL: http://www.linear.com/; ComponentLink2Description: Datasheet; ComponentLink2URL: http://cds.linear.com/docs/en/datasheet/3606bfb.pdf; ComponentLink3Description: Package Specification; ComponentLink3URL: http://cds.linear.com/docs/en/packaging/DFN_8_05-08-1698.pdf
footprint LT-DD-8_V (SON, 8-Leads, Body 3x3mm, Pitch 0.5mm, Thermal Pad 1.65x2.38 mm)
pins: 1 GND (power) "Ground. Connect to the (-) terminal of COUT, and the (-) terminal of CIN. The Exposed Pad must be soldered to PCB.", 2 RLIM (in) "Average Input Current Limit Program Pin. Place a resistor and capacitor in parallel from this pin to ground.", 3 GND (power) "Ground. Connect to the (-) terminal of COUT, and the (-) terminal of CIN. The Exposed Pad must be soldered to PCB.", 4 SW (power) "Regulator Switch Node Connection to the Inductor. This pin swings from VIN to GND.", 5 VIN (power) "Main Power Supply. Must be closely decoupled to GND.", 6 PGOOD (oc) "Open-Drain Logic Output. PGOOD is pulled to ground if the voltage on the VFB pin is not within power good threshold.", 7 RUN (in) "Regulator Enable. Forcing this pin to VIN enables regulator, while forcing it to GND causes regulator to shut down.", 8 VFB (in) "Regulator Output Feedback. Receives the feedback voltage from the external resistive divider across the regulator output. Nominal voltage for this pin is 0.6V.", 9 EP (power) "Ground. Connect to the (-) terminal of COUT, and the (-) terminal of CIN. The Exposed Pad must be soldered to PCB."

## LTC3606BEDD#TRPBF
designator U?
800 mA Synchronous Step-Down DC/DC with Average Input Current Limit, 2.5 to 5.5 V Vin, 5 V Vout MAX, 8-pin SON (DD-8), -40 to 85 degC, Pb-Free, Tape and Reel; Manufacturer: Linear Technology; PartNumber: LTC3606BEDD#TRPBF; Output Current(A): 0.8; Topology: Buck; DatasheetVersion: Rev. B; PackageVersion: Jun-10; PackageReference: DD-8; PackageDescription: 8-Pin Plastic DFN, Body 3 x 3 mm, Pitch 0.5 mm; Supplier 1: Digi-Key; Supplier Part Number 1: LTC3606BEDD#TRPBF-ND; Packing: Tape and Reel; RoHS: TRUE; Mounting Technology: Surface Mount; Code_JEDEC: MO-229; ComponentLink1Description: Manufacturer URL; ComponentLink1URL: http://www.linear.com/; ComponentLink2Description: Datasheet; ComponentLink2URL: http://cds.linear.com/docs/en/datasheet/3606bfb.pdf; ComponentLink3Description: Package Specification; ComponentLink3URL: http://cds.linear.com/docs/en/packaging/DFN_8_05-08-1698.pdf
footprint LT-DD-8_V (SON, 8-Leads, Body 3x3mm, Pitch 0.5mm, Thermal Pad 1.65x2.38 mm)
pins: 1 GND (power) "Ground. Connect to the (-) terminal of COUT, and the (-) terminal of CIN. The Exposed Pad must be soldered to PCB.", 2 RLIM (in) "Average Input Current Limit Program Pin. Place a resistor and capacitor in parallel from this pin to ground.", 3 GND (power) "Ground. Connect to the (-) terminal of COUT, and the (-) terminal of CIN. The Exposed Pad must be soldered to PCB.", 4 SW (power) "Regulator Switch Node Connection to the Inductor. This pin swings from VIN to GND.", 5 VIN (power) "Main Power Supply. Must be closely decoupled to GND.", 6 PGOOD (oc) "Open-Drain Logic Output. PGOOD is pulled to ground if the voltage on the VFB pin is not within power good threshold.", 7 RUN (in) "Regulator Enable. Forcing this pin to VIN enables regulator, while forcing it to GND causes regulator to shut down.", 8 VFB (in) "Regulator Output Feedback. Receives the feedback voltage from the external resistive divider across the regulator output. Nominal voltage for this pin is 0.6V.", 9 EP (power) "Ground. Connect to the (-) terminal of COUT, and the (-) terminal of CIN. The Exposed Pad must be soldered to PCB."

## LTC3606BIDD#PBF
designator U?
800 mA Synchronous Step-Down DC/DC with Average Input Current Limit, 2.5 to 5.5 V Vin, 5 V Vout MAX, 8-pin SON (DD-8), -40 to 125 degC, Pb-Free; Manufacturer: Linear Technology; PartNumber: LTC3606BIDD#PBF; Output Current(A): 0.8; Topology: Buck; DatasheetVersion: Rev. B; PackageVersion: Jun-10; PackageReference: DD-8; PackageDescription: 8-Pin Plastic DFN, Body 3 x 3 mm, Pitch 0.5 mm; Supplier 1: Digi-Key; Supplier Part Number 1: LTC3606BIDD#PBF-ND; RoHS: TRUE; Mounting Technology: Surface Mount; Code_JEDEC: MO-229; ComponentLink1Description: Manufacturer URL; ComponentLink1URL: http://www.linear.com/; ComponentLink2Description: Datasheet; ComponentLink2URL: http://cds.linear.com/docs/en/datasheet/3606bfb.pdf; ComponentLink3Description: Package Specification; ComponentLink3URL: http://cds.linear.com/docs/en/packaging/DFN_8_05-08-1698.pdf
footprint LT-DD-8_V (SON, 8-Leads, Body 3x3mm, Pitch 0.5mm, Thermal Pad 1.65x2.38 mm)
pins: 1 GND (power) "Ground. Connect to the (-) terminal of COUT, and the (-) terminal of CIN. The Exposed Pad must be soldered to PCB.", 2 RLIM (in) "Average Input Current Limit Program Pin. Place a resistor and capacitor in parallel from this pin to ground.", 3 GND (power) "Ground. Connect to the (-) terminal of COUT, and the (-) terminal of CIN. The Exposed Pad must be soldered to PCB.", 4 SW (power) "Regulator Switch Node Connection to the Inductor. This pin swings from VIN to GND.", 5 VIN (power) "Main Power Supply. Must be closely decoupled to GND.", 6 PGOOD (oc) "Open-Drain Logic Output. PGOOD is pulled to ground if the voltage on the VFB pin is not within power good threshold.", 7 RUN (in) "Regulator Enable. Forcing this pin to VIN enables regulator, while forcing it to GND causes regulator to shut down.", 8 VFB (in) "Regulator Output Feedback. Receives the feedback voltage from the external resistive divider across the regulator output. Nominal voltage for this pin is 0.6V.", 9 EP (power) "Ground. Connect to the (-) terminal of COUT, and the (-) terminal of CIN. The Exposed Pad must be soldered to PCB."